# Altium footprint library Diodes_rus.PcbLib: 41 footprints (part 3 of 3)
Each footprint in its own frame and in the unit in brackets; x right, y up, seen from the top. Pads: shape width x height; smd on the part's side, far side on the other; paste and mask are expansions set on the pad; w line width, h text height; cw(c..) or ccw(c..) is an arc to the next point about the centre after c.
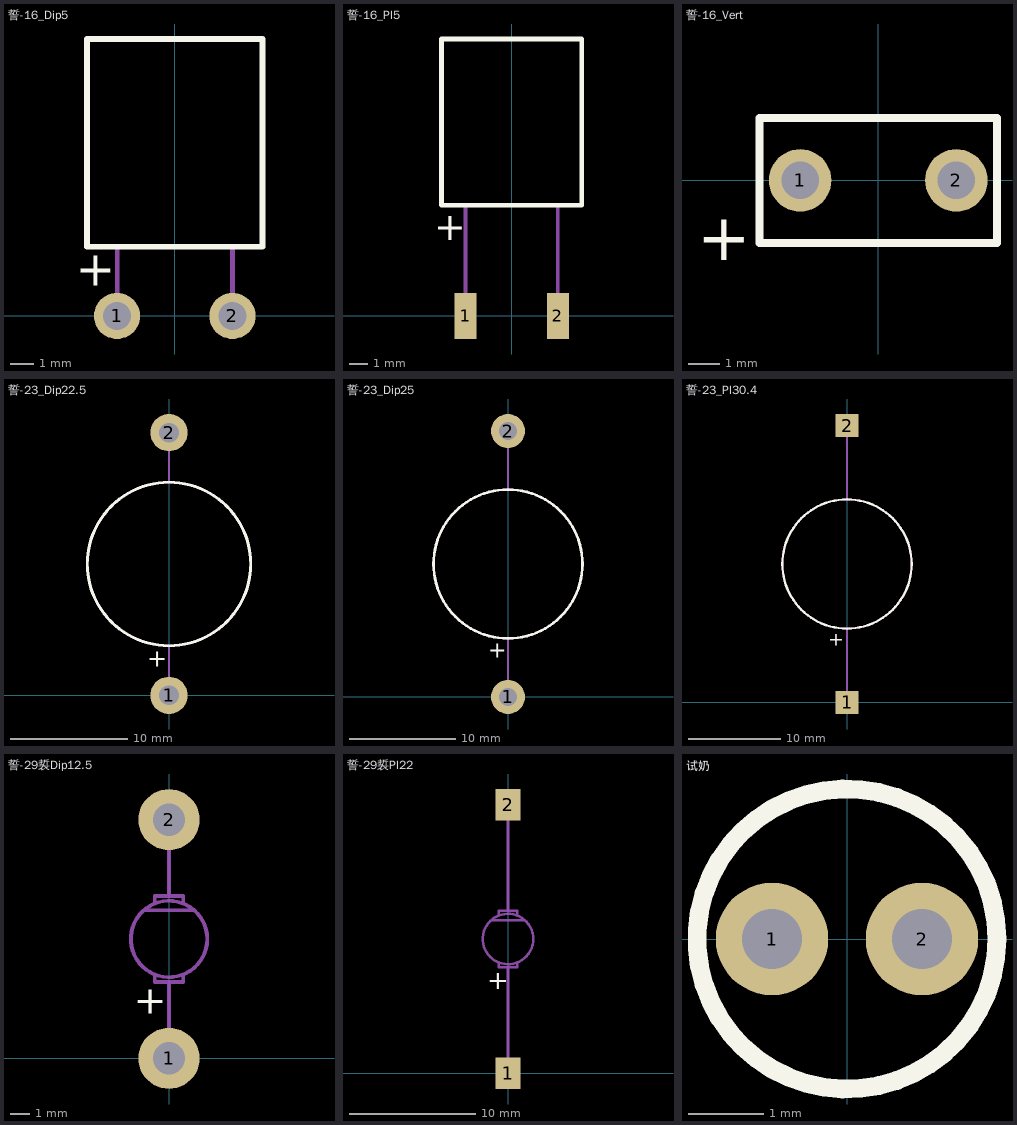
[diagram p2: the footprints below, top view; thin cyan lines are the x and y axes]

## 誓-16_Dip5 [mm]
height 4
pads (2):
  round 2 hole 1.2 unplated: 1(-2.5,0) 2(2.5,0)
Top Overlay:
  lines w0.25: -3.8,3 -3.8,12 3.8,12 3.8,3 -3.8,3
  text "+" at -4.3,1.3 h1.5
Mechanical 1:
  lines w0.2: -3.775,3 -3.8,3 ; -2.5,0 -2.5,3 ; 2.5,0 2.5,3 ; 3.775,3 3.8,3 ; 3.8,7.5 3.8,3 ; -3.8,3 -3.8,12 3.8,12 3.8,3 ; -3.8,3 3.8,3
  text ".Comment" at -2.65,7.15 h1.5
  text "+" at -2.85,3.5 h1.5
  text ".Designator" at -1.45,9.35 h1.5
3D body: height 4, standoff -3, extent -3.8,-0.5 3.8,11.999

## 誓-16_Pl5 [mm]
height 4
pads (2):
  rect 1.2x2.5 smd: 1(-2.5,0) 2(2.5,0)
Top Overlay:
  lines w0.25: -3.8,6 3.8,6 3.8,15 -3.8,15 -3.8,6
  text "+" at -4.2,4.1 h1.5
Mechanical 1:
  lines w0.2: -3.775,6 -3.8,6 ; -2.5,-0.25 -2.5,6 ; 2.5,-0.25 2.5,6 ; 3.775,6 3.8,6 ; 3.8,10.5 3.8,6 ; -3.8,6 3.8,6 ; -3.8,6 -3.8,15 3.8,15 3.8,6
  text ".Designator" at -1.65,11.75 h1.5
  text ".Comment" at -2.85,9.55 h1.5
  text "+" at -2.8,6.75 h1.5
3D body: height 4, standoff 0, extent -3.8,-0.75 3.8,15

## 誓-16_Vert [mm]
height 11
pads (2):
  round 2 hole 1.2 unplated: 1(-2.5,0) 2(2.5,0)
Top Overlay:
  lines w0.25: -3.8,-2 -3.8,2 3.8,2 3.8,-2 -3.8,-2
  text "+" at -5.8,-2.55 h1.5
Mechanical 1:
  lines w0.2: -3.775,-2 -3.8,-2 ; 3.775,-2 3.8,-2 ; -3.8,-2 -3.8,2 3.8,2 3.8,-2 ; -3.8,-2 3.8,-2
  text ".Designator" at -2.25,2.6 h1.5
  text "+" at -2.828,-0.307 h1.5
3D body: height 11, standoff -3, extent -3.8,-2 3.8,2

## 誓-23_Dip22.5 [mm]
height 4.5
pads (2):
  round 3.2 hole 1.7: 1(0,0) 2(0,22.5)
Top Overlay:
  circle w0.25: c0,11.25 r7
  text "+" at -1.85,2.45 h1.5
Mechanical 1:
  circle w0.2: c0,11.25 r7
  lines w0.2: 0,0 0,4.25 ; 0,18.25 0,22.5
  text "+" at -0.428,5.168 h1.5
  text ".Comment" at -2.35,9.8 h1.5
  text ".Designator" at -1.15,12 h1.5
3D body: height 4.5, standoff -3, extent -6.986,-0.45 6.986,22.95

## 誓-23_Dip25 [mm]
height 4.5
pads (2):
  round 3.2 hole 1.7: 1(0,0) 2(0,25)
Top Overlay:
  circle w0.25: c0,12.5 r7
  text "+" at -1.85,3.7 h1.5
Mechanical 1:
  circle w0.2: c0,12.5 r7
  lines w0.2: 0,0 0,5.5 ; 0,19.5 0,25
  text ".Designator" at -1.15,13.25 h1.5
  text ".Comment" at -2.35,11.05 h1.5
  text "+" at -0.428,6.418 h1.5
3D body: height 4.5, standoff -3, extent -6.986,-0.45 6.986,25.45

## 誓-23_Pl30.4 [mm]
height 4.5
pads (2):
  rect 2.5x2.5 smd: 1(0,0) 2(0,30)
Top Overlay:
  circle w0.25: c0,15 r7
  text "+" at -2.05,6.15 h1.5
Mechanical 1:
  circle w0.2: c0,15 r7
  lines w0.2: 0,-0.2 0,8 ; 0,22 0,30.2
  text ".Designator" at -1.45,15.45 h1.5
  text ".Comment" at -2.65,13.25 h1.5
  text "+" at -0.4,8.75 h1.5
3D body: height 4.5, standoff 0, extent -7,-0.2 6.972,30.2

## 誓-29裚Dip12.5 [mm]
height 4.5
pads (2):
  round 3.2 hole 1.7: 1(0,0) 2(0,12.5)
Top Overlay:
  text "+" at -1.85,2.35 h1.5
Mechanical 1:
  circle w0.2: c0,6.25 r2
  lines w0.2: -1.3,7.75 1.3,7.75 ; -0.75,4.4 -0.75,4 0.75,4 0.75,4.4 ; -0.75,8.1 -0.75,8.5 0.75,8.5 0.75,8.1 ; 0,0 0,4 ; 0,8.5 0,12.5
  text ".Designator" at -2.4,4.5 h1.5
  text "+" at -0.3,4.6 h1.5
3D body: height 4.5, standoff -2.65, extent -2.232,-0.674 2.25,13.174

## 誓-29裚Pl22 [mm]
height 4.5
pads (2):
  rect 2x2.5 smd: 1(0,0) 2(0,21.25)
Top Overlay:
  text "+" at -1.65,6.65 h1.5
Mechanical 1:
  circle w0.2: c0,10.625 r2
  lines w0.2: -1.3,12.125 1.3,12.125 ; -0.75,8.775 -0.75,8.375 0.75,8.375 0.75,8.775 ; -0.75,12.475 -0.75,12.875 0.75,12.875 0.75,12.475 ; 0,-0.375 0,8.375 ; 0,12.875 0,21.625
  text "+" at -0.35,9 h1.5
  text ".Designator" at -2.4,9.55 h1.5
3D body: height 4.5, standoff 0, extent -2.2,-0.375 2.282,21.625

## 试奶 [mm]
height 8
pads (2):
  round 1.5 hole 0.8: 1(-1,0) 2(1,0)
Top Overlay:
  circle w0.25: c0,0 r2
Mechanical 1:
  circle w0.2: c0,0 r2
  text ".Designator" at -1.1,2.45 h1.5